# Altium schematic symbol library WE-XHMI.SchLib: 178 symbols (part 3 of 4)
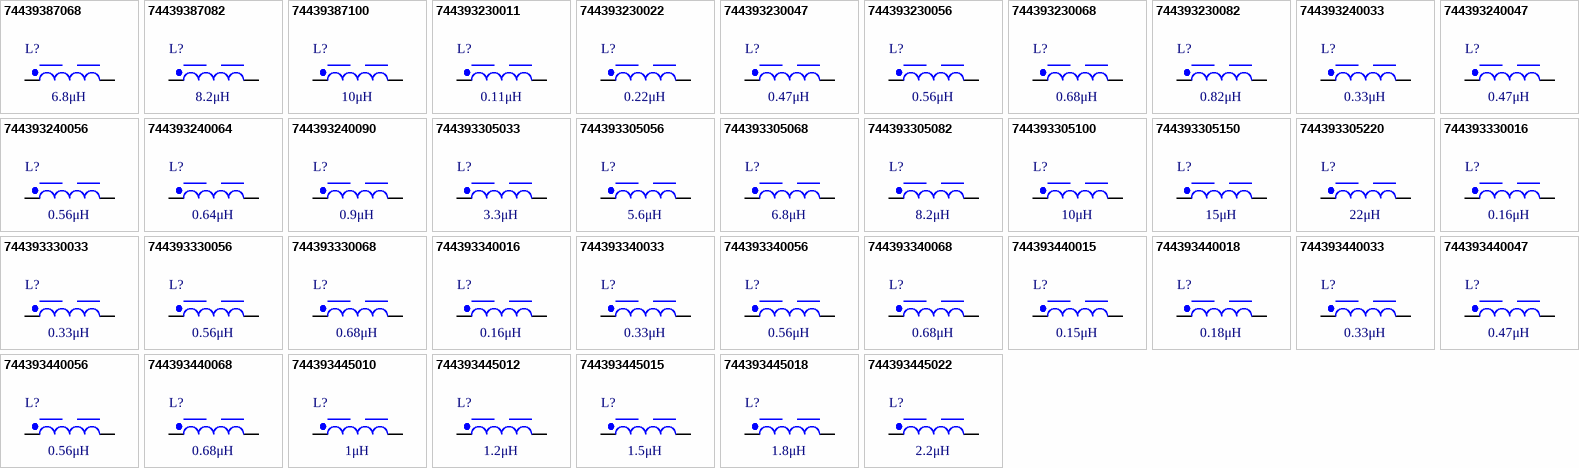
[diagram p6: symbols 74439387068 to 744393445022]

## 744393440047
designator L?, comment 0.47μH
WE-XHMI SMT Power Inductor, size 6030, 0.47μH, 27.3A, 3.14mΩ; Manufacturer Part Number: 744393440047; Manufacturer: Wurth Elektronik; Case/Size Code: 6030; DC Resistance: 2.8mΩ; Saturation Current @ 30%: 34A; Self Resonant Frequency: 85MHz; Category: Power Inductors; Match Code: WE-XHMI; ComponentLink1Description: Website Link; ComponentLink1URL: https://www.we-online.com/redexpert/article/744393440047?ad; ComponentLink2Description: Datasheet Link; ComponentLink2URL: https://www.we-online.com/redexpert/spec/744393440047?ad; Mount: Surface Mount; Min Operating Temperature: -40°C; Max Operating Temperature: 125°C; Packaging: Tape and Reel; Length: 6.65mm; Width: 6.45mm; Height: 3mm; DC Resistance Max: 3.14mΩ; Inductance: 0.47μH; Performance Rated Current: 27.3A
footprint WE-XHMI_6030
simulation model 6030_744393440047_0.47u
pins: 1, 2

## 744393440056
designator L?, comment 0.56μH
WE-XHMI SMT Power Inductor, size 6030, 0.56μH, 22.75A, 3.19mΩ; Manufacturer Part Number: 744393440056; Manufacturer: Wurth Elektronik; Case/Size Code: 6030; DC Resistance: 2.9mΩ; Saturation Current @ 30%: 30.8A; Self Resonant Frequency: 77MHz; Category: Power Inductors; Match Code: WE-XHMI; ComponentLink1Description: Website Link; ComponentLink1URL: https://www.we-online.com/redexpert/article/744393440056?ad; ComponentLink2Description: Datasheet Link; ComponentLink2URL: https://www.we-online.com/redexpert/spec/744393440056?ad; Mount: Surface Mount; Min Operating Temperature: -40°C; Max Operating Temperature: 125°C; Packaging: Tape and Reel; Length: 6.65mm; Width: 6.45mm; Height: 3mm; DC Resistance Max: 3.19mΩ; Inductance: 0.56μH; Performance Rated Current: 22.75A
footprint WE-XHMI_6030
simulation model 6030_744393440056_0.56u
pins: 1, 2

## 744393440068
designator L?, comment 0.68μH
WE-XHMI SMT Power Inductor, size 6030, 0.68μH, 21.7A, 4.4mΩ; Manufacturer Part Number: 744393440068; Manufacturer: Wurth Elektronik; Case/Size Code: 6030; DC Resistance: 3.8mΩ; Saturation Current @ 30%: 27.7A; Self Resonant Frequency: 65MHz; Category: Power Inductors; Match Code: WE-XHMI; ComponentLink1Description: Website Link; ComponentLink1URL: https://www.we-online.com/redexpert/article/744393440068?ad; ComponentLink2Description: Datasheet Link; ComponentLink2URL: https://www.we-online.com/redexpert/spec/744393440068?ad; Mount: Surface Mount; Min Operating Temperature: -40°C; Max Operating Temperature: 125°C; Packaging: Tape and Reel; Length: 6.65mm; Width: 6.45mm; Height: 3mm; DC Resistance Max: 4.4mΩ; Inductance: 0.68μH; Performance Rated Current: 21.7A
footprint WE-XHMI_6030
simulation model 6030_744393440068_0.68u
pins: 1, 2

## 744393445010
designator L?, comment 1μH
WE-XHMI SMT Power Inductor, size 6030 P, 1μH, 25.1A, 4.9mΩ; Manufacturer Part Number: 744393445010; Manufacturer: Wurth Elektronik; Case/Size Code: 6030 P; DC Resistance: 4.2mΩ; Saturation Current @ 30%: 21.4A; Self Resonant Frequency: 48MHz; Category: Power Inductors; Match Code: WE-XHMI; ComponentLink1Description: Website Link; ComponentLink1URL: https://www.we-online.com/redexpert/article/744393445010?ad; ComponentLink2Description: Datasheet Link; ComponentLink2URL: https://www.we-online.com/redexpert/spec/744393445010?ad; Mount: Surface Mount; Min Operating Temperature: -55°C; Max Operating Temperature: 150°C; Packaging: Tape and Reel; Length: 6.6mm; Width: 6.4mm; Height: 3.1mm; DC Resistance Max: 4.9mΩ; Inductance: 1μH; Performance Rated Current: 25.1A
footprint WE-XHMI_6030 P
simulation model 6030P_744393445010_1u
pins: 1, 2

## 744393445012
designator L?, comment 1.2μH
WE-XHMI SMT Power Inductor, size 6030 P, 1.2μH, 24.8A, 5.2mΩ; Manufacturer Part Number: 744393445012; Manufacturer: Wurth Elektronik; Case/Size Code: 6030 P; DC Resistance: 4.3mΩ; Saturation Current @ 30%: 20.6A; Self Resonant Frequency: 44MHz; Category: Power Inductors; Match Code: WE-XHMI; ComponentLink1Description: Website Link; ComponentLink1URL: https://www.we-online.com/redexpert/article/744393445012?ad; ComponentLink2Description: Datasheet Link; ComponentLink2URL: https://www.we-online.com/redexpert/spec/744393445012?ad; Mount: Surface Mount; Min Operating Temperature: -55°C; Max Operating Temperature: 150°C; Packaging: Tape and Reel; Length: 6.6mm; Width: 6.4mm; Height: 3.1mm; DC Resistance Max: 5.2mΩ; Inductance: 1.2μH; Performance Rated Current: 24.8A
footprint WE-XHMI_6030 P
simulation model 6030P_744393445012_1.2u
pins: 1, 2

## 744393445015
designator L?, comment 1.5μH
WE-XHMI SMT Power Inductor, size 6030 P, 1.5μH, 22A, 7mΩ; Manufacturer Part Number: 744393445015; Manufacturer: Wurth Elektronik; Case/Size Code: 6030 P; DC Resistance: 5.8mΩ; Saturation Current @ 30%: 19.9A; Self Resonant Frequency: 34MHz; Category: Power Inductors; Match Code: WE-XHMI; ComponentLink1Description: Website Link; ComponentLink1URL: https://www.we-online.com/redexpert/article/744393445015?ad; ComponentLink2Description: Datasheet Link; ComponentLink2URL: https://www.we-online.com/redexpert/spec/744393445015?ad; Mount: Surface Mount; Min Operating Temperature: -55°C; Max Operating Temperature: 150°C; Packaging: Tape and Reel; Length: 6.6mm; Width: 6.4mm; Height: 3.1mm; DC Resistance Max: 7mΩ; Inductance: 1.5μH; Performance Rated Current: 22A
footprint WE-XHMI_6030 P
simulation model 6030P_744393445015_1.5u
pins: 1, 2

## 744393445018
designator L?, comment 1.8μH
WE-XHMI SMT Power Inductor, size 6030 P, 1.8μH, 21.8A, 8mΩ; Manufacturer Part Number: 744393445018; Manufacturer: Wurth Elektronik; Case/Size Code: 6030 P; DC Resistance: 6.8mΩ; Saturation Current @ 30%: 18.1A; Self Resonant Frequency: 28MHz; Category: Power Inductors; Match Code: WE-XHMI; ComponentLink1Description: Website Link; ComponentLink1URL: https://www.we-online.com/redexpert/article/744393445018?ad; ComponentLink2Description: Datasheet Link; ComponentLink2URL: https://www.we-online.com/redexpert/spec/744393445018?ad; Mount: Surface Mount; Min Operating Temperature: -55°C; Max Operating Temperature: 150°C; Packaging: Tape and Reel; Length: 6.6mm; Width: 6.4mm; Height: 3.1mm; DC Resistance Max: 8mΩ; Inductance: 1.8μH; Performance Rated Current: 21.8A
footprint WE-XHMI_6030 P
simulation model 6030P_744393445018_1.8u
pins: 1, 2

## 744393445022
designator L?, comment 2.2μH
WE-XHMI SMT Power Inductor, size 6030 P, 2.2μH, 19.2A, 10.3mΩ; Manufacturer Part Number: 744393445022; Manufacturer: Wurth Elektronik; Case/Size Code: 6030 P; DC Resistance: 8.3mΩ; Saturation Current @ 30%: 17.7A; Self Resonant Frequency: 27MHz; Category: Power Inductors; Match Code: WE-XHMI; ComponentLink1Description: Website Link; ComponentLink1URL: https://www.we-online.com/redexpert/article/744393445022?ad; ComponentLink2Description: Datasheet Link; ComponentLink2URL: https://www.we-online.com/redexpert/spec/744393445022?ad; Mount: Surface Mount; Min Operating Temperature: -55°C; Max Operating Temperature: 150°C; Packaging: Tape and Reel; Length: 6.6mm; Width: 6.4mm; Height: 3.1mm; DC Resistance Max: 10.3mΩ; Inductance: 2.2μH; Performance Rated Current: 19.2A
footprint WE-XHMI_6030 P
simulation model 6030P_744393445022_2.2u
pins: 1, 2

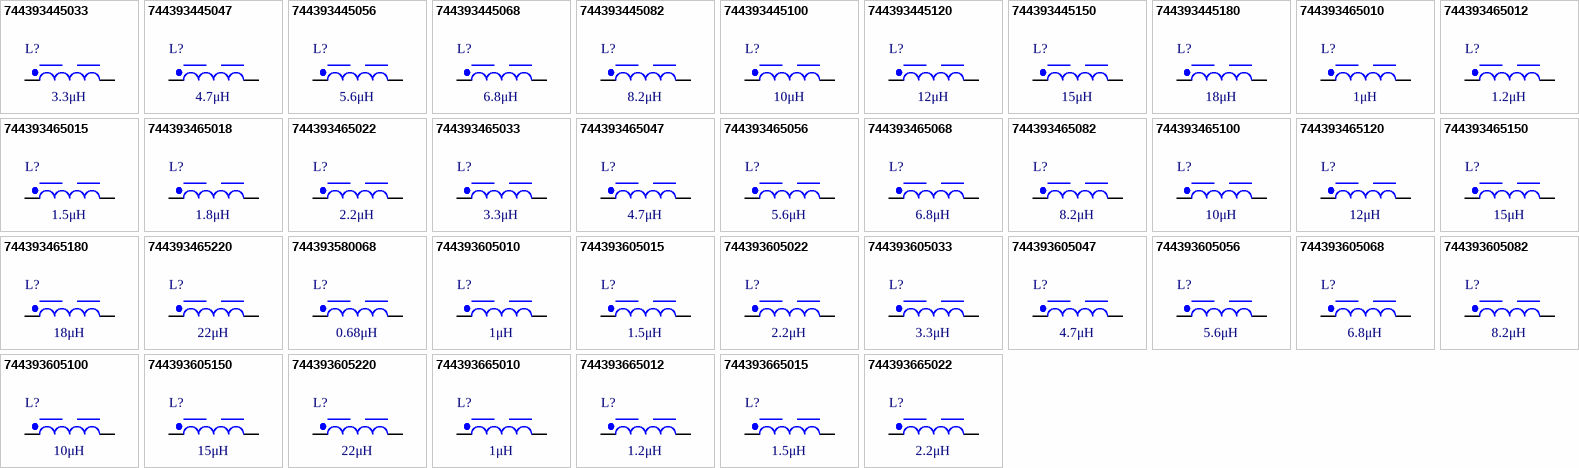
[diagram p3: symbols 744393445033 to 744393665022]

## 744393445033
designator L?, comment 3.3μH
WE-XHMI SMT Power Inductor, size 6030 P, 3.3μH, 13.9A, 15.4mΩ; Manufacturer Part Number: 744393445033; Manufacturer: Wurth Elektronik; Case/Size Code: 6030 P; DC Resistance: 14.3mΩ; Saturation Current @ 30%: 12.5A; Self Resonant Frequency: 23MHz; Category: Power Inductors; Match Code: WE-XHMI; ComponentLink1Description: Website Link; ComponentLink1URL: https://www.we-online.com/redexpert/article/744393445033?ad; ComponentLink2Description: Datasheet Link; ComponentLink2URL: https://www.we-online.com/redexpert/spec/744393445033?ad; Mount: Surface Mount; Min Operating Temperature: -55°C; Max Operating Temperature: 150°C; Packaging: Tape and Reel; Length: 6.6mm; Width: 6.4mm; Height: 3.1mm; DC Resistance Max: 15.4mΩ; Inductance: 3.3μH; Performance Rated Current: 13.9A
footprint WE-XHMI_6030 P
simulation model 6030P_744393445033_3.3u
pins: 1, 2

## 744393445047
designator L?, comment 4.7μH
WE-XHMI SMT Power Inductor, size 6030 P, 4.7μH, 13A, 21mΩ; Manufacturer Part Number: 744393445047; Manufacturer: Wurth Elektronik; Case/Size Code: 6030 P; DC Resistance: 16.7mΩ; Saturation Current @ 30%: 10.8A; Self Resonant Frequency: 18MHz; Category: Power Inductors; Match Code: WE-XHMI; ComponentLink1Description: Website Link; ComponentLink1URL: https://www.we-online.com/redexpert/article/744393445047?ad; ComponentLink2Description: Datasheet Link; ComponentLink2URL: https://www.we-online.com/redexpert/spec/744393445047?ad; Mount: Surface Mount; Min Operating Temperature: -55°C; Max Operating Temperature: 150°C; Packaging: Tape and Reel; Length: 6.6mm; Width: 6.4mm; Height: 3.1mm; DC Resistance Max: 21mΩ; Inductance: 4.7μH; Performance Rated Current: 13A
footprint WE-XHMI_6030 P
simulation model 6030P_744393445047_4.7u
pins: 1, 2

## 744393445056
designator L?, comment 5.6μH
WE-XHMI SMT Power Inductor, size 6030 P, 5.6μH, 11.7A, 24.1mΩ; Manufacturer Part Number: 744393445056; Manufacturer: Wurth Elektronik; Case/Size Code: 6030 P; DC Resistance: 19.9mΩ; Saturation Current @ 30%: 10.6A; Self Resonant Frequency: 16MHz; Category: Power Inductors; Match Code: WE-XHMI; ComponentLink1Description: Website Link; ComponentLink1URL: https://www.we-online.com/redexpert/article/744393445056?ad; ComponentLink2Description: Datasheet Link; ComponentLink2URL: https://www.we-online.com/redexpert/spec/744393445056?ad; Mount: Surface Mount; Min Operating Temperature: -55°C; Max Operating Temperature: 150°C; Packaging: Tape and Reel; Length: 6.6mm; Width: 6.4mm; Height: 3.1mm; DC Resistance Max: 24.1mΩ; Inductance: 5.6μH; Performance Rated Current: 11.7A
footprint WE-XHMI_6030 P
simulation model 6030P_744393445056_5.6u
pins: 1, 2

## 744393445068
designator L?, comment 6.8μH
WE-XHMI SMT Power Inductor, size 6030 P, 6.8μH, 9.8A, 28mΩ; Manufacturer Part Number: 744393445068; Manufacturer: Wurth Elektronik; Case/Size Code: 6030 P; DC Resistance: 24.4mΩ; Saturation Current @ 30%: 9.3A; Self Resonant Frequency: 15MHz; Category: Power Inductors; Match Code: WE-XHMI; ComponentLink1Description: Website Link; ComponentLink1URL: https://www.we-online.com/redexpert/article/744393445068?ad; ComponentLink2Description: Datasheet Link; ComponentLink2URL: https://www.we-online.com/redexpert/spec/744393445068?ad; Mount: Surface Mount; Min Operating Temperature: -55°C; Max Operating Temperature: 150°C; Packaging: Tape and Reel; Length: 6.6mm; Width: 6.4mm; Height: 3.1mm; DC Resistance Max: 28mΩ; Inductance: 6.8μH; Performance Rated Current: 9.8A
footprint WE-XHMI_6030 P
simulation model 6030P_744393445068_6.8u
pins: 1, 2

## 744393445082
designator L?, comment 8.2μH
WE-XHMI SMT Power Inductor, size 6030 P, 8.2μH, 7.8A, 38mΩ; Manufacturer Part Number: 744393445082; Manufacturer: Wurth Elektronik; Case/Size Code: 6030 P; DC Resistance: 36mΩ; Saturation Current @ 30%: 8.8A; Self Resonant Frequency: 14MHz; Category: Power Inductors; Match Code: WE-XHMI; ComponentLink1Description: Website Link; ComponentLink1URL: https://www.we-online.com/redexpert/article/744393445082?ad; ComponentLink2Description: Datasheet Link; ComponentLink2URL: https://www.we-online.com/redexpert/spec/744393445082?ad; Mount: Surface Mount; Min Operating Temperature: -55°C; Max Operating Temperature: 150°C; Packaging: Tape and Reel; Length: 6.6mm; Width: 6.4mm; Height: 3.1mm; DC Resistance Max: 38mΩ; Inductance: 8.2μH; Performance Rated Current: 7.8A
footprint WE-XHMI_6030 P
simulation model 6030P_744393445082_8.2u
pins: 1, 2

## 744393445100
designator L?, comment 10μH
WE-XHMI SMT Power Inductor, size 6030 P, 10μH, 7.5A, 44mΩ; Manufacturer Part Number: 744393445100; Manufacturer: Wurth Elektronik; Case/Size Code: 6030 P; DC Resistance: 40.3mΩ; Saturation Current @ 30%: 7.4A; Self Resonant Frequency: 13MHz; Category: Power Inductors; Match Code: WE-XHMI; ComponentLink1Description: Website Link; ComponentLink1URL: https://www.we-online.com/redexpert/article/744393445100?ad; ComponentLink2Description: Datasheet Link; ComponentLink2URL: https://www.we-online.com/redexpert/spec/744393445100?ad; Mount: Surface Mount; Min Operating Temperature: -55°C; Max Operating Temperature: 150°C; Packaging: Tape and Reel; Length: 6.6mm; Width: 6.4mm; Height: 3.1mm; DC Resistance Max: 44mΩ; Inductance: 10μH; Performance Rated Current: 7.5A
footprint WE-XHMI_6030 P
simulation model 6030P_744393445100_10u
pins: 1, 2

## 744393445120
designator L?, comment 12μH
WE-XHMI SMT Power Inductor, size 6030 P, 12μH, 6.6A, 53mΩ; Manufacturer Part Number: 744393445120; Manufacturer: Wurth Elektronik; Case/Size Code: 6030 P; DC Resistance: 48.5mΩ; Saturation Current @ 30%: 7A; Self Resonant Frequency: 12MHz; Category: Power Inductors; Match Code: WE-XHMI; ComponentLink1Description: Website Link; ComponentLink1URL: https://www.we-online.com/redexpert/article/744393445120?ad; ComponentLink2Description: Datasheet Link; ComponentLink2URL: https://www.we-online.com/redexpert/spec/744393445120?ad; Mount: Surface Mount; Min Operating Temperature: -55°C; Max Operating Temperature: 150°C; Packaging: Tape and Reel; Length: 6.6mm; Width: 6.4mm; Height: 3.1mm; DC Resistance Max: 53mΩ; Inductance: 12μH; Performance Rated Current: 6.6A
footprint WE-XHMI_6030 P
simulation model 6030P_744393445120_12u
pins: 1, 2

## 744393445150
designator L?, comment 15μH
WE-XHMI SMT Power Inductor, size 6030 P, 15μH, 5.9A, 72mΩ; Manufacturer Part Number: 744393445150; Manufacturer: Wurth Elektronik; Case/Size Code: 6030 P; DC Resistance: 61.8mΩ; Saturation Current @ 30%: 6.5A; Self Resonant Frequency: 9MHz; Category: Power Inductors; Match Code: WE-XHMI; ComponentLink1Description: Website Link; ComponentLink1URL: https://www.we-online.com/redexpert/article/744393445150?ad; ComponentLink2Description: Datasheet Link; ComponentLink2URL: https://www.we-online.com/redexpert/spec/744393445150?ad; Mount: Surface Mount; Min Operating Temperature: -55°C; Max Operating Temperature: 150°C; Packaging: Tape and Reel; Length: 6.6mm; Width: 6.4mm; Height: 3.1mm; DC Resistance Max: 72mΩ; Inductance: 15μH; Performance Rated Current: 5.9A
footprint WE-XHMI_6030 P
simulation model 6030P_744393445150_15u
pins: 1, 2

## 744393445180
designator L?, comment 18μH
WE-XHMI SMT Power Inductor, size 6030 P, 18μH, 5A, 77mΩ; Manufacturer Part Number: 744393445180; Manufacturer: Wurth Elektronik; Case/Size Code: 6030 P; DC Resistance: 68.3mΩ; Saturation Current @ 30%: 5.6A; Self Resonant Frequency: 8MHz; Category: Power Inductors; Match Code: WE-XHMI; ComponentLink1Description: Website Link; ComponentLink1URL: https://www.we-online.com/redexpert/article/744393445180?ad; ComponentLink2Description: Datasheet Link; ComponentLink2URL: https://www.we-online.com/redexpert/spec/744393445180?ad; Mount: Surface Mount; Min Operating Temperature: -55°C; Max Operating Temperature: 150°C; Packaging: Tape and Reel; Length: 6.6mm; Width: 6.4mm; Height: 3.1mm; DC Resistance Max: 77mΩ; Inductance: 18μH; Performance Rated Current: 5A
footprint WE-XHMI_6030 P
simulation model 6030P_744393445180_18u
pins: 1, 2

## 744393465010
designator L?, comment 1μH
WE-XHMI SMT Power Inductor, size 6060 P, 1μH, 32.3A, 2.5mΩ; Manufacturer Part Number: 744393465010; Manufacturer: Wurth Elektronik; Case/Size Code: 6060 P; DC Resistance: 2.2mΩ; Saturation Current @ 30%: 26.2A; Self Resonant Frequency: 42MHz; Category: Power Inductors; Match Code: WE-XHMI; ComponentLink1Description: Website Link; ComponentLink1URL: https://www.we-online.com/redexpert/article/744393465010?ad; ComponentLink2Description: Datasheet Link; ComponentLink2URL: https://www.we-online.com/redexpert/spec/744393465010?ad; Mount: Surface Mount; Min Operating Temperature: -55°C; Max Operating Temperature: 150°C; Packaging: Tape and Reel; Length: 6.6mm; Width: 6.4mm; Height: 6.1mm; DC Resistance Max: 2.5mΩ; Inductance: 1μH; Performance Rated Current: 32.3A
footprint WE-XHMI_6060 P
simulation model 6060P_744393465010_1u
pins: 1, 2

## 744393465012
designator L?, comment 1.2μH
WE-XHMI SMT Power Inductor, size 6060 P, 1.2μH, 30.9A, 3.4mΩ; Manufacturer Part Number: 744393465012; Manufacturer: Wurth Elektronik; Case/Size Code: 6060 P; DC Resistance: 2.6mΩ; Saturation Current @ 30%: 22.7A; Self Resonant Frequency: 37MHz; Category: Power Inductors; Match Code: WE-XHMI; ComponentLink1Description: Website Link; ComponentLink1URL: https://www.we-online.com/redexpert/article/744393465012?ad; ComponentLink2Description: Datasheet Link; ComponentLink2URL: https://www.we-online.com/redexpert/spec/744393465012?ad; Mount: Surface Mount; Min Operating Temperature: -55°C; Max Operating Temperature: 150°C; Packaging: Tape and Reel; Length: 6.6mm; Width: 6.4mm; Height: 6.1mm; DC Resistance Max: 3.4mΩ; Inductance: 1.2μH; Performance Rated Current: 30.9A
footprint WE-XHMI_6060 P
simulation model 6060P_744393465012_1.2u
pins: 1, 2

## 744393465015
designator L?, comment 1.5μH
WE-XHMI SMT Power Inductor, size 6060 P, 1.5μH, 30.6A, 3.8mΩ; Manufacturer Part Number: 744393465015; Manufacturer: Wurth Elektronik; Case/Size Code: 6060 P; DC Resistance: 3mΩ; Saturation Current @ 30%: 22A; Self Resonant Frequency: 32MHz; Category: Power Inductors; Match Code: WE-XHMI; ComponentLink1Description: Website Link; ComponentLink1URL: https://www.we-online.com/redexpert/article/744393465015?ad; ComponentLink2Description: Datasheet Link; ComponentLink2URL: https://www.we-online.com/redexpert/spec/744393465015?ad; Mount: Surface Mount; Min Operating Temperature: -55°C; Max Operating Temperature: 150°C; Packaging: Tape and Reel; Length: 6.6mm; Width: 6.4mm; Height: 6.1mm; DC Resistance Max: 3.8mΩ; Inductance: 1.5μH; Performance Rated Current: 30.6A
footprint WE-XHMI_6060 P
simulation model 6060P_744393465015_1.5u
pins: 1, 2

## 744393465018
designator L?, comment 1.8μH
WE-XHMI SMT Power Inductor, size 6060 P, 1.8μH, 25.7A, 4mΩ; Manufacturer Part Number: 744393465018; Manufacturer: Wurth Elektronik; Case/Size Code: 6060 P; DC Resistance: 3.5mΩ; Saturation Current @ 30%: 21.5A; Self Resonant Frequency: 31MHz; Category: Power Inductors; Match Code: WE-XHMI; ComponentLink1Description: Website Link; ComponentLink1URL: https://www.we-online.com/redexpert/article/744393465018?ad; ComponentLink2Description: Datasheet Link; ComponentLink2URL: https://www.we-online.com/redexpert/spec/744393465018?ad; Mount: Surface Mount; Min Operating Temperature: -55°C; Max Operating Temperature: 150°C; Packaging: Tape and Reel; Length: 6.6mm; Width: 6.4mm; Height: 6.1mm; DC Resistance Max: 4mΩ; Inductance: 1.8μH; Performance Rated Current: 25.7A
footprint WE-XHMI_6060 P
simulation model 6060P_744393465018_1.8u
pins: 1, 2

## 744393465022
designator L?, comment 2.2μH
WE-XHMI SMT Power Inductor, size 6060 P, 2.2μH, 22.3A, 4.5mΩ; Manufacturer Part Number: 744393465022; Manufacturer: Wurth Elektronik; Case/Size Code: 6060 P; DC Resistance: 3.9mΩ; Saturation Current @ 30%: 18.6A; Self Resonant Frequency: 29MHz; Category: Power Inductors; Match Code: WE-XHMI; ComponentLink1Description: Website Link; ComponentLink1URL: https://www.we-online.com/redexpert/article/744393465022?ad; ComponentLink2Description: Datasheet Link; ComponentLink2URL: https://www.we-online.com/redexpert/spec/744393465022?ad; Mount: Surface Mount; Min Operating Temperature: -55°C; Max Operating Temperature: 150°C; Packaging: Tape and Reel; Length: 6.6mm; Width: 6.4mm; Height: 6.1mm; DC Resistance Max: 4.5mΩ; Inductance: 2.2μH; Performance Rated Current: 22.3A
footprint WE-XHMI_6060 P
simulation model 6060P_744393465022_2.2u
pins: 1, 2

## 744393465033
designator L?, comment 3.3μH
WE-XHMI SMT Power Inductor, size 6060 P, 3.3μH, 20.4A, 6.5mΩ; Manufacturer Part Number: 744393465033; Manufacturer: Wurth Elektronik; Case/Size Code: 6060 P; DC Resistance: 6mΩ; Saturation Current @ 30%: 15.6A; Self Resonant Frequency: 21MHz; Category: Power Inductors; Match Code: WE-XHMI; ComponentLink1Description: Website Link; ComponentLink1URL: https://www.we-online.com/redexpert/article/744393465033?ad; ComponentLink2Description: Datasheet Link; ComponentLink2URL: https://www.we-online.com/redexpert/spec/744393465033?ad; Mount: Surface Mount; Min Operating Temperature: -55°C; Max Operating Temperature: 150°C; Packaging: Tape and Reel; Length: 6.6mm; Width: 6.4mm; Height: 6.1mm; DC Resistance Max: 6.5mΩ; Inductance: 3.3μH; Performance Rated Current: 20.4A
footprint WE-XHMI_6060 P
simulation model 6060P_744393465033_3.3u
pins: 1, 2

## 744393465047
designator L?, comment 4.7μH
WE-XHMI SMT Power Inductor, size 6060 P, 4.7μH, 14.6A, 10.1mΩ; Manufacturer Part Number: 744393465047; Manufacturer: Wurth Elektronik; Case/Size Code: 6060 P; DC Resistance: 9.4mΩ; Saturation Current @ 30%: 14.4A; Self Resonant Frequency: 20MHz; Category: Power Inductors; Match Code: WE-XHMI; ComponentLink1Description: Website Link; ComponentLink1URL: https://www.we-online.com/redexpert/article/744393465047?ad; ComponentLink2Description: Datasheet Link; ComponentLink2URL: https://www.we-online.com/redexpert/spec/744393465047?ad; Mount: Surface Mount; Min Operating Temperature: -55°C; Max Operating Temperature: 150°C; Packaging: Tape and Reel; Length: 6.6mm; Width: 6.4mm; Height: 6.1mm; DC Resistance Max: 10.1mΩ; Inductance: 4.7μH; Performance Rated Current: 14.6A
footprint WE-XHMI_6060 P
simulation model 6060P_744393465047_4.7u
pins: 1, 2

## 744393465056
designator L?, comment 5.6μH
WE-XHMI SMT Power Inductor, size 6060 P, 5.6μH, 13.7A, 11.7mΩ; Manufacturer Part Number: 744393465056; Manufacturer: Wurth Elektronik; Case/Size Code: 6060 P; DC Resistance: 10.9mΩ; Saturation Current @ 30%: 12A; Self Resonant Frequency: 15MHz; Category: Power Inductors; Match Code: WE-XHMI; ComponentLink1Description: Website Link; ComponentLink1URL: https://www.we-online.com/redexpert/article/744393465056?ad; ComponentLink2Description: Datasheet Link; ComponentLink2URL: https://www.we-online.com/redexpert/spec/744393465056?ad; Mount: Surface Mount; Min Operating Temperature: -55°C; Max Operating Temperature: 150°C; Packaging: Tape and Reel; Length: 6.6mm; Width: 6.4mm; Height: 6.1mm; DC Resistance Max: 11.7mΩ; Inductance: 5.6μH; Performance Rated Current: 13.7A
footprint WE-XHMI_6060 P
simulation model 6060P_744393465056_5.6u
pins: 1, 2

## 744393465068
designator L?, comment 6.8μH
WE-XHMI SMT Power Inductor, size 6060 P, 6.8μH, 13.4A, 14mΩ; Manufacturer Part Number: 744393465068; Manufacturer: Wurth Elektronik; Case/Size Code: 6060 P; DC Resistance: 12.5mΩ; Saturation Current @ 30%: 10.9A; Self Resonant Frequency: 13MHz; Category: Power Inductors; Match Code: WE-XHMI; ComponentLink1Description: Website Link; ComponentLink1URL: https://www.we-online.com/redexpert/article/744393465068?ad; ComponentLink2Description: Datasheet Link; ComponentLink2URL: https://www.we-online.com/redexpert/spec/744393465068?ad; Mount: Surface Mount; Min Operating Temperature: -55°C; Max Operating Temperature: 150°C; Packaging: Tape and Reel; Length: 6.6mm; Width: 6.4mm; Height: 6.1mm; DC Resistance Max: 14mΩ; Inductance: 6.8μH; Performance Rated Current: 13.4A
footprint WE-XHMI_6060 P
simulation model 6060P_744393465068_6.8u
pins: 1, 2

## 744393465082
designator L?, comment 8.2μH
WE-XHMI SMT Power Inductor, size 6060 P, 8.2μH, 13.1A, 16.8mΩ; Manufacturer Part Number: 744393465082; Manufacturer: Wurth Elektronik; Case/Size Code: 6060 P; DC Resistance: 14.6mΩ; Saturation Current @ 30%: 10.1A; Self Resonant Frequency: 12MHz; Category: Power Inductors; Match Code: WE-XHMI; ComponentLink1Description: Website Link; ComponentLink1URL: https://www.we-online.com/redexpert/article/744393465082?ad; ComponentLink2Description: Datasheet Link; ComponentLink2URL: https://www.we-online.com/redexpert/spec/744393465082?ad; Mount: Surface Mount; Min Operating Temperature: -55°C; Max Operating Temperature: 150°C; Packaging: Tape and Reel; Length: 6.6mm; Width: 6.4mm; Height: 6.1mm; DC Resistance Max: 16.8mΩ; Inductance: 8.2μH; Performance Rated Current: 13.1A
footprint WE-XHMI_6060 P
simulation model 6060P_744393465082_8.2u
pins: 1, 2

## 744393465100
designator L?, comment 10μH
WE-XHMI SMT Power Inductor, size 6060 P, 10μH, 10A, 19.4mΩ; Manufacturer Part Number: 744393465100; Manufacturer: Wurth Elektronik; Case/Size Code: 6060 P; DC Resistance: 18mΩ; Saturation Current @ 30%: 9.9A; Self Resonant Frequency: 12MHz; Category: Power Inductors; Match Code: WE-XHMI; ComponentLink1Description: Website Link; ComponentLink1URL: https://www.we-online.com/redexpert/article/744393465100?ad; ComponentLink2Description: Datasheet Link; ComponentLink2URL: https://www.we-online.com/redexpert/spec/744393465100?ad; Mount: Surface Mount; Min Operating Temperature: -55°C; Max Operating Temperature: 150°C; Packaging: Tape and Reel; Length: 6.6mm; Width: 6.4mm; Height: 6.1mm; DC Resistance Max: 19.4mΩ; Inductance: 10μH; Performance Rated Current: 10A
footprint WE-XHMI_6060 P
simulation model 6060P_744393465100_10u
pins: 1, 2

## 744393465120
designator L?, comment 12μH
WE-XHMI SMT Power Inductor, size 6060 P, 12μH, 8.9A, 24.2mΩ; Manufacturer Part Number: 744393465120; Manufacturer: Wurth Elektronik; Case/Size Code: 6060 P; DC Resistance: 22.8mΩ; Saturation Current @ 30%: 9.8A; Self Resonant Frequency: 11MHz; Category: Power Inductors; Match Code: WE-XHMI; ComponentLink1Description: Website Link; ComponentLink1URL: https://www.we-online.com/redexpert/article/744393465120?ad; ComponentLink2Description: Datasheet Link; ComponentLink2URL: https://www.we-online.com/redexpert/spec/744393465120?ad; Mount: Surface Mount; Min Operating Temperature: -55°C; Max Operating Temperature: 150°C; Packaging: Tape and Reel; Length: 6.6mm; Width: 6.4mm; Height: 6.1mm; DC Resistance Max: 24.2mΩ; Inductance: 12μH; Performance Rated Current: 8.9A
footprint WE-XHMI_6060 P
simulation model 6060P_744393465120_12u
pins: 1, 2

## 744393465150
designator L?, comment 15μH
WE-XHMI SMT Power Inductor, size 6060 P, 15μH, 8.5A, 31.1mΩ; Manufacturer Part Number: 744393465150; Manufacturer: Wurth Elektronik; Case/Size Code: 6060 P; DC Resistance: 28.6mΩ; Saturation Current @ 30%: 7.8A; Self Resonant Frequency: 8MHz; Category: Power Inductors; Match Code: WE-XHMI; ComponentLink1Description: Website Link; ComponentLink1URL: https://www.we-online.com/redexpert/article/744393465150?ad; ComponentLink2Description: Datasheet Link; ComponentLink2URL: https://www.we-online.com/redexpert/spec/744393465150?ad; Mount: Surface Mount; Min Operating Temperature: -55°C; Max Operating Temperature: 150°C; Packaging: Tape and Reel; Length: 6.6mm; Width: 6.4mm; Height: 6.1mm; DC Resistance Max: 31.1mΩ; Inductance: 15μH; Performance Rated Current: 8.5A
footprint WE-XHMI_6060 P
simulation model 6060P_744393465150_15u
pins: 1, 2

## 744393465180
designator L?, comment 18μH
WE-XHMI SMT Power Inductor, size 6060 P, 18μH, 7.2A, 37.3mΩ; Manufacturer Part Number: 744393465180; Manufacturer: Wurth Elektronik; Case/Size Code: 6060 P; DC Resistance: 34.5mΩ; Saturation Current @ 30%: 6.8A; Self Resonant Frequency: 8MHz; Category: Power Inductors; Match Code: WE-XHMI; ComponentLink1Description: Website Link; ComponentLink1URL: https://www.we-online.com/redexpert/article/744393465180?ad; ComponentLink2Description: Datasheet Link; ComponentLink2URL: https://www.we-online.com/redexpert/spec/744393465180?ad; Mount: Surface Mount; Min Operating Temperature: -55°C; Max Operating Temperature: 150°C; Packaging: Tape and Reel; Length: 6.6mm; Width: 6.4mm; Height: 6.1mm; DC Resistance Max: 37.3mΩ; Inductance: 18μH; Performance Rated Current: 7.2A
footprint WE-XHMI_6060 P
simulation model 6060P_744393465180_18u
pins: 1, 2

## 744393465220
designator L?, comment 22μH
WE-XHMI SMT Power Inductor, size 6060 P, 22μH, 5.3A, 46.9mΩ; Manufacturer Part Number: 744393465220; Manufacturer: Wurth Elektronik; Case/Size Code: 6060 P; DC Resistance: 42mΩ; Saturation Current @ 30%: 6.7A; Self Resonant Frequency: 8MHz; Category: Power Inductors; Match Code: WE-XHMI; ComponentLink1Description: Website Link; ComponentLink1URL: https://www.we-online.com/redexpert/article/744393465220?ad; ComponentLink2Description: Datasheet Link; ComponentLink2URL: https://www.we-online.com/redexpert/spec/744393465220?ad; Mount: Surface Mount; Min Operating Temperature: -55°C; Max Operating Temperature: 150°C; Packaging: Tape and Reel; Length: 6.6mm; Width: 6.4mm; Height: 6.1mm; DC Resistance Max: 46.9mΩ; Inductance: 22μH; Performance Rated Current: 5.3A
footprint WE-XHMI_6060 P
simulation model 6060P_744393465220_22u
pins: 1, 2

## 744393580068
designator L?, comment 0.68μH
WE-XHMI SMT Power Inductor, size 8080, 0.68μH, 38A, 1.69mΩ; Manufacturer Part Number: 744393580068; Manufacturer: Wurth Elektronik; Case/Size Code: 8080; DC Resistance: 1.41mΩ; Saturation Current @ 30%: 52.2A; Self Resonant Frequency: 62MHz; Category: Power Inductors; Match Code: WE-XHMI; ComponentLink1Description: Website Link; ComponentLink1URL: https://www.we-online.com/redexpert/article/744393580068?ad; ComponentLink2Description: Datasheet Link; ComponentLink2URL: https://www.we-online.com/redexpert/spec/744393580068?ad; Mount: Surface Mount; Min Operating Temperature: -40°C; Max Operating Temperature: 125°C; Packaging: Tape and Reel; Length: 8.8mm; Width: 8.3mm; Height: 7.8mm; DC Resistance Max: 1.69mΩ; Inductance: 0.68μH; Performance Rated Current: 38A
footprint WE-XHMI_8080
simulation model 8080_744393580068_0.68u
pins: 1, 2

## 744393605010
designator L?, comment 1μH
WE-XHMI SMT Power Inductor, size 1010 P, 1μH, 45.6A, 1.1mΩ; Manufacturer Part Number: 744393605010; Manufacturer: Wurth Elektronik; Case/Size Code: 1010 P; DC Resistance: 0.97mΩ; Saturation Current @ 30%: 57A; Self Resonant Frequency: 38MHz; Category: Power Inductors; Match Code: WE-XHMI; ComponentLink1Description: Website Link; ComponentLink1URL: https://www.we-online.com/redexpert/article/744393605010?ad; ComponentLink2Description: Datasheet Link; ComponentLink2URL: https://www.we-online.com/redexpert/spec/744393605010?ad; Mount: Surface Mount; Min Operating Temperature: -55°C; Max Operating Temperature: 150°C; Packaging: Tape and Reel; Length: 11.3mm; Width: 10mm; Height: 10mm; DC Resistance Max: 1.1mΩ; Inductance: 1μH; Performance Rated Current: 45.6A
footprint WE-XHMI_1010 P
simulation model 1010P_744393605010_1u
pins: 1, 2

## 744393605015
designator L?, comment 1.5μH
WE-XHMI SMT Power Inductor, size 1010 P, 1.5μH, 41.9A, 1.7mΩ; Manufacturer Part Number: 744393605015; Manufacturer: Wurth Elektronik; Case/Size Code: 1010 P; DC Resistance: 1.4mΩ; Saturation Current @ 30%: 55A; Self Resonant Frequency: 30MHz; Category: Power Inductors; Match Code: WE-XHMI; ComponentLink1Description: Website Link; ComponentLink1URL: https://www.we-online.com/redexpert/article/744393605015?ad; ComponentLink2Description: Datasheet Link; ComponentLink2URL: https://www.we-online.com/redexpert/spec/744393605015?ad; Mount: Surface Mount; Min Operating Temperature: -55°C; Max Operating Temperature: 150°C; Packaging: Tape and Reel; Length: 11.3mm; Width: 10mm; Height: 10mm; DC Resistance Max: 1.7mΩ; Inductance: 1.5μH; Performance Rated Current: 41.9A
footprint WE-XHMI_1010 P
simulation model 1010P_744393605015_1.5u
pins: 1, 2

## 744393605022
designator L?, comment 2.2μH
WE-XHMI SMT Power Inductor, size 1010 P, 2.2μH, 29.5A, 2.6mΩ; Manufacturer Part Number: 744393605022; Manufacturer: Wurth Elektronik; Case/Size Code: 1010 P; DC Resistance: 1.9mΩ; Saturation Current @ 30%: 42.5A; Self Resonant Frequency: 26MHz; Category: Power Inductors; Match Code: WE-XHMI; ComponentLink1Description: Website Link; ComponentLink1URL: https://www.we-online.com/redexpert/article/744393605022?ad; ComponentLink2Description: Datasheet Link; ComponentLink2URL: https://www.we-online.com/redexpert/spec/744393605022?ad; Mount: Surface Mount; Min Operating Temperature: -55°C; Max Operating Temperature: 150°C; Packaging: Tape and Reel; Length: 11.3mm; Width: 10mm; Height: 10mm; DC Resistance Max: 2.6mΩ; Inductance: 2.2μH; Performance Rated Current: 29.5A
footprint WE-XHMI_1010 P
simulation model 1010P_744393605022_2.2u
pins: 1, 2

## 744393605033
designator L?, comment 3.3μH
WE-XHMI SMT Power Inductor, size 1010 P, 3.3μH, 28.7A, 3.4mΩ; Manufacturer Part Number: 744393605033; Manufacturer: Wurth Elektronik; Case/Size Code: 1010 P; DC Resistance: 2.7mΩ; Saturation Current @ 30%: 41.5A; Self Resonant Frequency: 20MHz; Category: Power Inductors; Match Code: WE-XHMI; ComponentLink1Description: Website Link; ComponentLink1URL: https://www.we-online.com/redexpert/article/744393605033?ad; ComponentLink2Description: Datasheet Link; ComponentLink2URL: https://www.we-online.com/redexpert/spec/744393605033?ad; Mount: Surface Mount; Min Operating Temperature: -55°C; Max Operating Temperature: 150°C; Packaging: Tape and Reel; Length: 11.3mm; Width: 10mm; Height: 10mm; DC Resistance Max: 3.4mΩ; Inductance: 3.3μH; Performance Rated Current: 28.7A
footprint WE-XHMI_1010 P
simulation model 1010P_744393605033_3.3u
pins: 1, 2

## 744393605047
designator L?, comment 4.7μH
WE-XHMI SMT Power Inductor, size 1010 P, 4.7μH, 27.9A, 4.5mΩ; Manufacturer Part Number: 744393605047; Manufacturer: Wurth Elektronik; Case/Size Code: 1010 P; DC Resistance: 3.8mΩ; Saturation Current @ 30%: 28A; Self Resonant Frequency: 15MHz; Category: Power Inductors; Match Code: WE-XHMI; ComponentLink1Description: Website Link; ComponentLink1URL: https://www.we-online.com/redexpert/article/744393605047?ad; ComponentLink2Description: Datasheet Link; ComponentLink2URL: https://www.we-online.com/redexpert/spec/744393605047?ad; Mount: Surface Mount; Min Operating Temperature: -55°C; Max Operating Temperature: 150°C; Packaging: Tape and Reel; Length: 11.3mm; Width: 10mm; Height: 10mm; DC Resistance Max: 4.5mΩ; Inductance: 4.7μH; Performance Rated Current: 27.9A
footprint WE-XHMI_1010 P
simulation model 1010P_744393605047_4.7u
pins: 1, 2

## 744393605056
designator L?, comment 5.6μH
WE-XHMI SMT Power Inductor, size 1010 P, 5.6μH, 25.2A, 5.9mΩ; Manufacturer Part Number: 744393605056; Manufacturer: Wurth Elektronik; Case/Size Code: 1010 P; DC Resistance: 5mΩ; Saturation Current @ 30%: 26A; Self Resonant Frequency: 14MHz; Category: Power Inductors; Match Code: WE-XHMI; ComponentLink1Description: Website Link; ComponentLink1URL: https://www.we-online.com/redexpert/article/744393605056?ad; ComponentLink2Description: Datasheet Link; ComponentLink2URL: https://www.we-online.com/redexpert/spec/744393605056?ad; Mount: Surface Mount; Min Operating Temperature: -55°C; Max Operating Temperature: 150°C; Packaging: Tape and Reel; Length: 11.3mm; Width: 10mm; Height: 10mm; DC Resistance Max: 5.9mΩ; Inductance: 5.6μH; Performance Rated Current: 25.2A
footprint WE-XHMI_1010 P
simulation model 1010P_744393605056_5.6u
pins: 1, 2

## 744393605068
designator L?, comment 6.8μH
WE-XHMI SMT Power Inductor, size 1010 P, 6.8μH, 20A, 7mΩ; Manufacturer Part Number: 744393605068; Manufacturer: Wurth Elektronik; Case/Size Code: 1010 P; DC Resistance: 5.9mΩ; Saturation Current @ 30%: 23.5A; Self Resonant Frequency: 13MHz; Category: Power Inductors; Match Code: WE-XHMI; ComponentLink1Description: Website Link; ComponentLink1URL: https://www.we-online.com/redexpert/article/744393605068?ad; ComponentLink2Description: Datasheet Link; ComponentLink2URL: https://www.we-online.com/redexpert/spec/744393605068?ad; Mount: Surface Mount; Min Operating Temperature: -55°C; Max Operating Temperature: 150°C; Packaging: Tape and Reel; Length: 11.3mm; Width: 10mm; Height: 10mm; DC Resistance Max: 7mΩ; Inductance: 6.8μH; Performance Rated Current: 20A
footprint WE-XHMI_1010 P
simulation model 1010P_744393605068_6.8u
pins: 1, 2

## 744393605082
designator L?, comment 8.2μH
WE-XHMI SMT Power Inductor, size 1010 P, 8.2μH, 19.2A, 8.7mΩ; Manufacturer Part Number: 744393605082; Manufacturer: Wurth Elektronik; Case/Size Code: 1010 P; DC Resistance: 7.1mΩ; Saturation Current @ 30%: 21.5A; Self Resonant Frequency: 12MHz; Category: Power Inductors; Match Code: WE-XHMI; ComponentLink1Description: Website Link; ComponentLink1URL: https://www.we-online.com/redexpert/article/744393605082?ad; ComponentLink2Description: Datasheet Link; ComponentLink2URL: https://www.we-online.com/redexpert/spec/744393605082?ad; Mount: Surface Mount; Min Operating Temperature: -55°C; Max Operating Temperature: 150°C; Packaging: Tape and Reel; Length: 11.3mm; Width: 10mm; Height: 10mm; DC Resistance Max: 8.7mΩ; Inductance: 8.2μH; Performance Rated Current: 19.2A
footprint WE-XHMI_1010 P
simulation model 1010P_744393605082_8.2u
pins: 1, 2

## 744393605100
designator L?, comment 10μH
WE-XHMI SMT Power Inductor, size 1010 P, 10μH, 17.2A, 9.7mΩ; Manufacturer Part Number: 744393605100; Manufacturer: Wurth Elektronik; Case/Size Code: 1010 P; DC Resistance: 8.5mΩ; Saturation Current @ 30%: 21A; Self Resonant Frequency: 10MHz; Category: Power Inductors; Match Code: WE-XHMI; ComponentLink1Description: Website Link; ComponentLink1URL: https://www.we-online.com/redexpert/article/744393605100?ad; ComponentLink2Description: Datasheet Link; ComponentLink2URL: https://www.we-online.com/redexpert/spec/744393605100?ad; Mount: Surface Mount; Min Operating Temperature: -55°C; Max Operating Temperature: 150°C; Packaging: Tape and Reel; Length: 11.3mm; Width: 10mm; Height: 10mm; DC Resistance Max: 9.7mΩ; Inductance: 10μH; Performance Rated Current: 17.2A
footprint WE-XHMI_1010 P
simulation model 1010P_744393605100_10u
pins: 1, 2

## 744393605150
designator L?, comment 15μH
WE-XHMI SMT Power Inductor, size 1010 P, 15μH, 14.9A, 15.2mΩ; Manufacturer Part Number: 744393605150; Manufacturer: Wurth Elektronik; Case/Size Code: 1010 P; DC Resistance: 12.9mΩ; Saturation Current @ 30%: 20.5A; Self Resonant Frequency: 8MHz; Category: Power Inductors; Match Code: WE-XHMI; ComponentLink1Description: Website Link; ComponentLink1URL: https://www.we-online.com/redexpert/article/744393605150?ad; ComponentLink2Description: Datasheet Link; ComponentLink2URL: https://www.we-online.com/redexpert/spec/744393605150?ad; Mount: Surface Mount; Min Operating Temperature: -55°C; Max Operating Temperature: 150°C; Packaging: Tape and Reel; Length: 11.3mm; Width: 10mm; Height: 10mm; DC Resistance Max: 15.2mΩ; Inductance: 15μH; Performance Rated Current: 14.9A
footprint WE-XHMI_1010 P
simulation model 1010P_744393605150_15u
pins: 1, 2

## 744393605220
designator L?, comment 22μH
WE-XHMI SMT Power Inductor, size 1010 P, 22μH, 11.6A, 22mΩ; Manufacturer Part Number: 744393605220; Manufacturer: Wurth Elektronik; Case/Size Code: 1010 P; DC Resistance: 18.7mΩ; Saturation Current @ 30%: 15.5A; Self Resonant Frequency: 6MHz; Category: Power Inductors; Match Code: WE-XHMI; ComponentLink1Description: Website Link; ComponentLink1URL: https://www.we-online.com/redexpert/article/744393605220?ad; ComponentLink2Description: Datasheet Link; ComponentLink2URL: https://www.we-online.com/redexpert/spec/744393605220?ad; Mount: Surface Mount; Min Operating Temperature: -55°C; Max Operating Temperature: 150°C; Packaging: Tape and Reel; Length: 11.3mm; Width: 10mm; Height: 10mm; DC Resistance Max: 22mΩ; Inductance: 22μH; Performance Rated Current: 11.6A
footprint WE-XHMI_1010 P
simulation model 1010P_744393605220_22u
pins: 1, 2

## 744393665010
designator L?, comment 1μH
WE-XHMI SMT Power Inductor, size 1060 P, 1μH, 48.1A, 1.9mΩ; Manufacturer Part Number: 744393665010; Manufacturer: Wurth Elektronik; Case/Size Code: 1060 P; DC Resistance: 1.5mΩ; Saturation Current @ 30%: 55A; Self Resonant Frequency: 35MHz; Category: Power Inductors; Match Code: WE-XHMI; ComponentLink1Description: Website Link; ComponentLink1URL: https://www.we-online.com/redexpert/article/744393665010?ad; ComponentLink2Description: Datasheet Link; ComponentLink2URL: https://www.we-online.com/redexpert/spec/744393665010?ad; Mount: Surface Mount; Min Operating Temperature: -55°C; Max Operating Temperature: 150°C; Packaging: Tape and Reel; Length: 11.3mm; Width: 10mm; Height: 6mm; DC Resistance Max: 1.9mΩ; Inductance: 1μH; Performance Rated Current: 48.1A
footprint WE-XHMI_1060 P
simulation model 1060P_744393665010_1u
pins: 1, 2

## 744393665012
designator L?, comment 1.2μH
WE-XHMI SMT Power Inductor, size 1060 P, 1.2μH, 43A, 2.2mΩ; Manufacturer Part Number: 744393665012; Manufacturer: Wurth Elektronik; Case/Size Code: 1060 P; DC Resistance: 1.8mΩ; Saturation Current @ 30%: 52A; Self Resonant Frequency: 30MHz; Category: Power Inductors; Match Code: WE-XHMI; ComponentLink1Description: Website Link; ComponentLink1URL: https://www.we-online.com/redexpert/article/744393665012?ad; ComponentLink2Description: Datasheet Link; ComponentLink2URL: https://www.we-online.com/redexpert/spec/744393665012?ad; Mount: Surface Mount; Min Operating Temperature: -55°C; Max Operating Temperature: 150°C; Packaging: Tape and Reel; Length: 11.3mm; Width: 10mm; Height: 6mm; DC Resistance Max: 2.2mΩ; Inductance: 1.2μH; Performance Rated Current: 43A
footprint WE-XHMI_1060 P
simulation model 1060P_744393665012_1.2u
pins: 1, 2

## 744393665015
designator L?, comment 1.5μH
WE-XHMI SMT Power Inductor, size 1060 P, 1.5μH, 39.4A, 2.2mΩ; Manufacturer Part Number: 744393665015; Manufacturer: Wurth Elektronik; Case/Size Code: 1060 P; DC Resistance: 2.1mΩ; Saturation Current @ 30%: 47A; Self Resonant Frequency: 28MHz; Category: Power Inductors; Match Code: WE-XHMI; ComponentLink1Description: Website Link; ComponentLink1URL: https://www.we-online.com/redexpert/article/744393665015?ad; ComponentLink2Description: Datasheet Link; ComponentLink2URL: https://www.we-online.com/redexpert/spec/744393665015?ad; Mount: Surface Mount; Min Operating Temperature: -55°C; Max Operating Temperature: 150°C; Packaging: Tape and Reel; Length: 11.3mm; Width: 10mm; Height: 6mm; DC Resistance Max: 2.2mΩ; Inductance: 1.5μH; Performance Rated Current: 39.4A
footprint WE-XHMI_1060 P
simulation model 1060P_744393665015_1.5u
pins: 1, 2

## 744393665022
designator L?, comment 2.2μH
WE-XHMI SMT Power Inductor, size 1060 P, 2.2μH, 33A, 4mΩ; Manufacturer Part Number: 744393665022; Manufacturer: Wurth Elektronik; Case/Size Code: 1060 P; DC Resistance: 3.1mΩ; Saturation Current @ 30%: 38A; Self Resonant Frequency: 23MHz; Category: Power Inductors; Match Code: WE-XHMI; ComponentLink1Description: Website Link; ComponentLink1URL: https://www.we-online.com/redexpert/article/744393665022?ad; ComponentLink2Description: Datasheet Link; ComponentLink2URL: https://www.we-online.com/redexpert/spec/744393665022?ad; Mount: Surface Mount; Min Operating Temperature: -55°C; Max Operating Temperature: 150°C; Packaging: Tape and Reel; Length: 11.3mm; Width: 10mm; Height: 6mm; DC Resistance Max: 4mΩ; Inductance: 2.2μH; Performance Rated Current: 33A
footprint WE-XHMI_1060 P
simulation model 1060P_744393665022_2.2u
pins: 1, 2

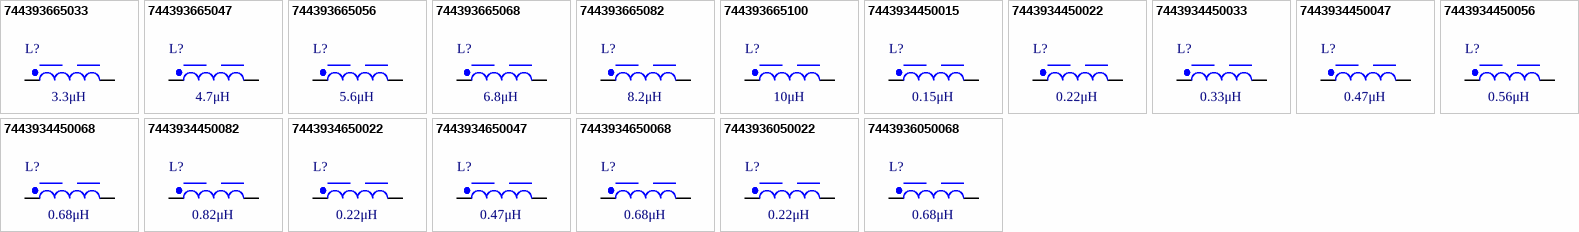
[diagram p4: symbols 744393665033 to 7443936050068]

## 744393665033
designator L?, comment 3.3μH
WE-XHMI SMT Power Inductor, size 1060 P, 3.3μH, 27.9A, 5.6mΩ; Manufacturer Part Number: 744393665033; Manufacturer: Wurth Elektronik; Case/Size Code: 1060 P; DC Resistance: 4.6mΩ; Saturation Current @ 30%: 30A; Self Resonant Frequency: 16MHz; Category: Power Inductors; Match Code: WE-XHMI; ComponentLink1Description: Website Link; ComponentLink1URL: https://www.we-online.com/redexpert/article/744393665033?ad; ComponentLink2Description: Datasheet Link; ComponentLink2URL: https://www.we-online.com/redexpert/spec/744393665033?ad; Mount: Surface Mount; Min Operating Temperature: -55°C; Max Operating Temperature: 150°C; Packaging: Tape and Reel; Length: 11.3mm; Width: 10mm; Height: 6mm; DC Resistance Max: 5.6mΩ; Inductance: 3.3μH; Performance Rated Current: 27.9A
footprint WE-XHMI_1060 P
simulation model 1060P_744393665033_3.3u
pins: 1, 2

## 744393665047
designator L?, comment 4.7μH
WE-XHMI SMT Power Inductor, size 1060 P, 4.7μH, 24.7A, 7.3mΩ; Manufacturer Part Number: 744393665047; Manufacturer: Wurth Elektronik; Case/Size Code: 1060 P; DC Resistance: 5.7mΩ; Saturation Current @ 30%: 26.5A; Self Resonant Frequency: 14MHz; Category: Power Inductors; Match Code: WE-XHMI; ComponentLink1Description: Website Link; ComponentLink1URL: https://www.we-online.com/redexpert/article/744393665047?ad; ComponentLink2Description: Datasheet Link; ComponentLink2URL: https://www.we-online.com/redexpert/spec/744393665047?ad; Mount: Surface Mount; Min Operating Temperature: -55°C; Max Operating Temperature: 150°C; Packaging: Tape and Reel; Length: 11.3mm; Width: 10mm; Height: 6mm; DC Resistance Max: 7.3mΩ; Inductance: 4.7μH; Performance Rated Current: 24.7A
footprint WE-XHMI_1060 P
simulation model 1060P_744393665047_4.7u
pins: 1, 2

## 744393665056
designator L?, comment 5.6μH
WE-XHMI SMT Power Inductor, size 1060 P, 5.6μH, 23.9A, 8mΩ; Manufacturer Part Number: 744393665056; Manufacturer: Wurth Elektronik; Case/Size Code: 1060 P; DC Resistance: 6.4mΩ; Saturation Current @ 30%: 21.5A; Self Resonant Frequency: 12MHz; Category: Power Inductors; Match Code: WE-XHMI; ComponentLink1Description: Website Link; ComponentLink1URL: https://www.we-online.com/redexpert/article/744393665056?ad; ComponentLink2Description: Datasheet Link; ComponentLink2URL: https://www.we-online.com/redexpert/spec/744393665056?ad; Mount: Surface Mount; Min Operating Temperature: -55°C; Max Operating Temperature: 150°C; Packaging: Tape and Reel; Length: 11.3mm; Width: 10mm; Height: 6mm; DC Resistance Max: 8mΩ; Inductance: 5.6μH; Performance Rated Current: 23.9A
footprint WE-XHMI_1060 P
simulation model 1060P_744393665056_5.6u
pins: 1, 2

## 744393665068
designator L?, comment 6.8μH
WE-XHMI SMT Power Inductor, size 1060 P, 6.8μH, 22.2A, 9mΩ; Manufacturer Part Number: 744393665068; Manufacturer: Wurth Elektronik; Case/Size Code: 1060 P; DC Resistance: 7.1mΩ; Saturation Current @ 30%: 20A; Self Resonant Frequency: 11MHz; Category: Power Inductors; Match Code: WE-XHMI; ComponentLink1Description: Website Link; ComponentLink1URL: https://www.we-online.com/redexpert/article/744393665068?ad; ComponentLink2Description: Datasheet Link; ComponentLink2URL: https://www.we-online.com/redexpert/spec/744393665068?ad; Mount: Surface Mount; Min Operating Temperature: -55°C; Max Operating Temperature: 150°C; Packaging: Tape and Reel; Length: 11.3mm; Width: 10mm; Height: 6mm; DC Resistance Max: 9mΩ; Inductance: 6.8μH; Performance Rated Current: 22.2A
footprint WE-XHMI_1060 P
simulation model 1060P_744393665068_6.8u
pins: 1, 2

## 744393665082
designator L?, comment 8.2μH
WE-XHMI SMT Power Inductor, size 1060 P, 8.2μH, 19.4A, 13mΩ; Manufacturer Part Number: 744393665082; Manufacturer: Wurth Elektronik; Case/Size Code: 1060 P; DC Resistance: 10.7mΩ; Saturation Current @ 30%: 19.5A; Self Resonant Frequency: 10MHz; Category: Power Inductors; Match Code: WE-XHMI; ComponentLink1Description: Website Link; ComponentLink1URL: https://www.we-online.com/redexpert/article/744393665082?ad; ComponentLink2Description: Datasheet Link; ComponentLink2URL: https://www.we-online.com/redexpert/spec/744393665082?ad; Mount: Surface Mount; Min Operating Temperature: -55°C; Max Operating Temperature: 150°C; Packaging: Tape and Reel; Length: 11.3mm; Width: 10mm; Height: 6mm; DC Resistance Max: 13mΩ; Inductance: 8.2μH; Performance Rated Current: 19.4A
footprint WE-XHMI_1060 P
simulation model 1060P_744393665082_8.2u
pins: 1, 2

## 744393665100
designator L?, comment 10μH
WE-XHMI SMT Power Inductor, size 1060 P, 10μH, 15.3A, 15.4mΩ; Manufacturer Part Number: 744393665100; Manufacturer: Wurth Elektronik; Case/Size Code: 1060 P; DC Resistance: 12.6mΩ; Saturation Current @ 30%: 18.5A; Self Resonant Frequency: 9MHz; Category: Power Inductors; Match Code: WE-XHMI; ComponentLink1Description: Website Link; ComponentLink1URL: https://www.we-online.com/redexpert/article/744393665100?ad; ComponentLink2Description: Datasheet Link; ComponentLink2URL: https://www.we-online.com/redexpert/spec/744393665100?ad; Mount: Surface Mount; Min Operating Temperature: -55°C; Max Operating Temperature: 150°C; Packaging: Tape and Reel; Length: 11.3mm; Width: 10mm; Height: 6mm; DC Resistance Max: 15.4mΩ; Inductance: 10μH; Performance Rated Current: 15.3A
footprint WE-XHMI_1060 P
simulation model 1060P_744393665100_10u
pins: 1, 2

## 7443934450015
designator L?, comment 0.15μH
WE-XHMI SMT Power Inductor, size 6030 P, 0.15μH, 56.8A, 1.2mΩ; Manufacturer Part Number: 7443934450015; Manufacturer: Wurth Elektronik; Case/Size Code: 6030 P; DC Resistance: 0.9mΩ; Saturation Current @ 30%: 48A; Self Resonant Frequency: 160MHz; Category: Power Inductors; Match Code: WE-XHMI; ComponentLink1Description: Website Link; ComponentLink1URL: https://www.we-online.com/redexpert/article/7443934450015?ad; ComponentLink2Description: Datasheet Link; ComponentLink2URL: https://www.we-online.com/redexpert/spec/7443934450015?ad; Mount: Surface Mount; Min Operating Temperature: -55°C; Max Operating Temperature: 150°C; Packaging: Tape and Reel; Length: 6.6mm; Width: 6.4mm; Height: 3.1mm; DC Resistance Max: 1.2mΩ; Inductance: 0.15μH; Performance Rated Current: 56.8A
footprint WE-XHMI_6030 P
simulation model 6030P_7443934450015_0.15u
pins: 1, 2